# Altium footprint library belt_control_V2.0.PcbLib: 27 footprints (part 2 of 2)
Each footprint in its own frame and in the unit in brackets; x right, y up, seen from the top. Pads: shape width x height; smd on the part's side, far side on the other; paste and mask are expansions set on the pad; w line width, h text height; cw(c..) or ccw(c..) is an arc to the next point about the centre after c.
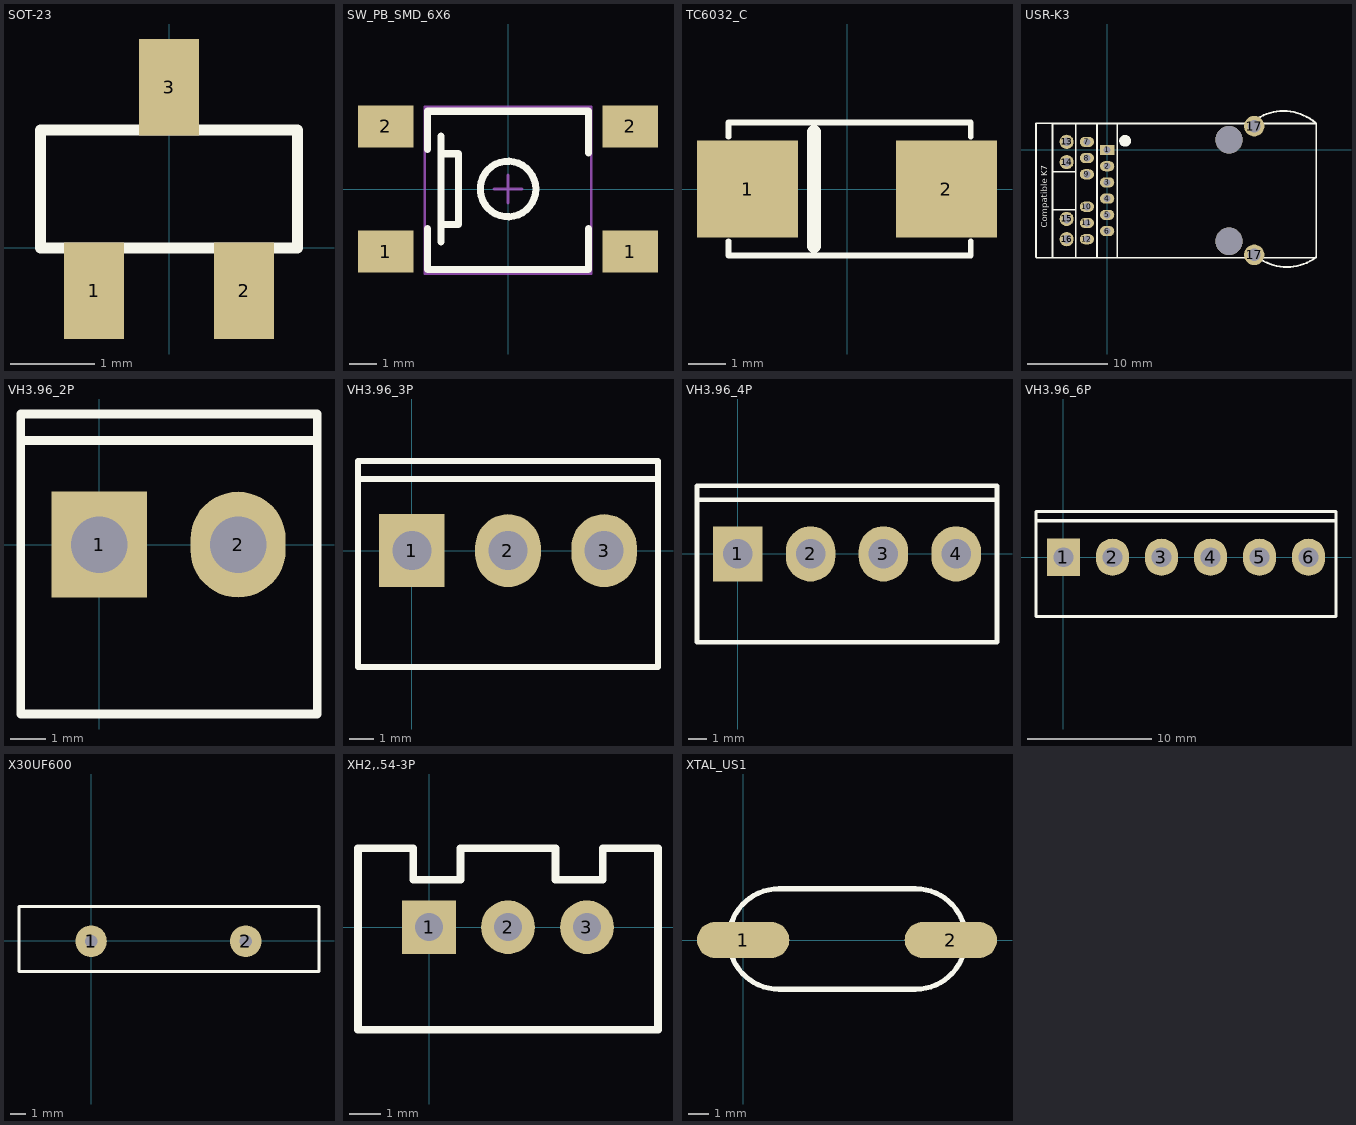
[diagram p1: the footprints below, top view; thin cyan lines are the x and y axes]

## SOT-23 [mil]
pads (3):
  rect 28x45 smd: 1(-35,-20) 2(35,-20) 3(0,75)
Top Overlay:
  lines w5: -60,0 -60,55 60,55 60,0 -60,0
3D body: height 47.24, standoff 0, extent -57.08,-30.12 57.09,80.12

## SW_PB_SMD_6X6 [mm]
pads (4):
  rect 2x1.5 smd: 1(-4.4,-2.25) 1(4.4,-2.25) 2(-4.4,2.25) 2(4.4,2.25)
Top Overlay:
  circle w0.254: c0,0 r1
  lines w0.254: -2.9,-1.418 -2.9,-2.9 2.9,-2.9 2.9,-1.418 ; -2.9,1.418 -2.9,2.8 2.9,2.8 2.9,1.291 ; -2.413,-1.905 -2.413,1.905 ; -2.413,-1.27 -1.778,-1.27 -1.778,1.27 -2.286,1.27
Mechanical 15:
  lines w0.1: -0.5,0 0.5,0 ; 0,-0.5 0,0.5 ; -3,-3.05 3,-3.05 3,2.95 -3,2.95 -3,-3.05
3D body: height 5.1, standoff -0.01, extent -4.975,-3.05 5.025,2.95

## TC6032_C [mm]
pads (2):
  rect 2.7x2.6 smd: 1(-2.667,0) 2(2.65,0)
Top Overlay:
  lines w0.152: -3.175,-1.397 -3.175,-1.778 3.302,-1.778 3.302,-1.397 ; -3.175,1.397 -3.175,1.778 3.302,1.778 3.302,1.397
  lines w0.381: -0.889,-1.524 -0.889,1.524
3D body: height 2.7, standoff 0, extent -2.923,-1.675 3.177,1.675

## USR-K3 [mil]
pads (18):
  rect 70x50 hole 35: 1(0,0)
  oval 70x50 hole 35: 2(0,-80) 3(0,-160) 4(0,-240) 5(0,-320) 6(0,-400) 7(-100,40) 8(-100,-40) 9(-100,-120) 10(-100,-280) 11(-100,-360) 12(-100,-440)
  round 70 hole 43: 13(-200,40) 14(-200,-60) 15(-200,-340) 16(-200,-440)
  round 101.18 hole 61.81: 17(725,-517.5) 17(725,117.5)
via 600,50 diameter 133.86 hole 133.86
via 600,-450 diameter 133.86 hole 133.86
Top Overlay:
  circle w30: c88.46,45 r14.14
  lines w7.87: -269.8,131 -351,131 -351,-529 -349.29,-530.71 -269.69,-530.71
  lines w8: -269.8,131 -269.69,-530.71 1030.32,-530.71 1030.2,127.48 ; -269.69,130.71 1030.32,130.71 ; -265,-294.96 -160,-294.96 ; -264.61,-107.52 -154.8,-107.52 ; -155,-530.71 -155,130.71 ; -50,-530.71 -50,130.71 ; 50.2,-527.52 50.2,127.48
  lines w10: 726.59,145.57 cw(c869.47,-50.22) 1026.03,134.81 ; 729.36,-519.85 ccw(c885.92,-334.82) 1028.8,-530.61
  text "Compatible K7" at -295,-384 h31.5

## VH3.96_2P [mm]
pads (2):
  rect 2.7x3 hole 1.6: 1(0,0)
  oval 2.7x3 hole 1.6: 2(3.937,0)
Top Overlay:
  lines w0.254: -2.22,2.946 6.178,2.946 ; -2.22,-4.8 -2.22,3.7 6.18,3.7 6.18,-4.8 -2.22,-4.8
3D body: height 10.9, standoff -3.7, extent -1.898,-4.504 5.962,3.996

## VH3.96_3P [mm]
pads (3):
  rect 2.7x3 hole 1.6: 1(0,0)
  oval 2.7x3 hole 1.6: 2(3.96,0) 3(7.92,0)
Top Overlay:
  lines w0.254: -2.22,2.946 10.14,2.946 ; -2.22,-4.8 10.14,-4.8 10.14,3.7 -2.22,3.7 -2.22,-4.8
3D body: height 10.9, standoff -3.7, extent -1.82,-4.682 10,3.818

## VH3.96_4P [mm]
pads (4):
  rect 2.7x3 hole 1.6: 1(0,0)
  oval 2.7x3 hole 1.6: 2(3.96,0) 3(7.92,0) 4(11.88,0)
Top Overlay:
  lines w0.254: -2.22,2.946 14.1,2.946 ; -2.22,-4.8 -2.22,3.7 14.1,3.7 14.1,-4.8 -2.22,-4.8
3D body: height 10.9, standoff -3.7, extent -2.048,-4.69 13.732,3.81

## VH3.96_6P [mm]
pads (6):
  rect 2.7x3 hole 1.6: 1(0,0)
  oval 2.7x3 hole 1.6: 2(3.96,0) 3(7.92,0) 4(11.88,0) 5(15.84,0) 6(19.8,0)
Top Overlay:
  lines w0.254: -2.22,2.946 22.02,2.946 ; -2.22,-4.8 -2.22,3.7 22.02,3.7 22.02,-4.8 -2.22,-4.8
3D body: height 14.6, standoff -3.6, extent -1.916,-4.835 21.844,3.565

## X30UF600 [mm]
pads (2):
  round 2 hole 0.8: 1(0,-0.025) 2(9.804,-0.025)
Top Overlay:
  lines w0.2: -4.572,-1.956 -4.572,2.184 -1.397,2.184 14.453,2.184 14.453,-1.956 -4.572,-1.956

## XH2,.54-3P [mil]
pads (3):
  rect 68x68 hole 35.43: 1(0,0)
  round 68 hole 35.43: 2(100,0) 3(200,0)
Top Overlay:
  lines w10: -90,-130 -90,100 -20,100 -20,60 40,60 40,100 160,100 160,60 220,60 220,100 290,100 290,-130 -90,-130
3D body: height 275.59, standoff -133.86, extent -94.76,-133.19 295,93.19

## XTAL_US1 [mm]
pads (2):
  oval 4.6x1.8 smd: 1(0,0) 2(10.338,0)
Top Overlay:
  lines w0.254: -0.582,-0.758 ccw(c1.783,0.051) 1.783,-2.449 ; -0.582,0.86 cw(c1.783,0.051) 1.783,2.551 ; 1.778,2.551 8.583,2.551 cw(c8.583,0.051) 10.949,0.86 ; 1.783,-2.449 8.583,-2.449 ccw(c8.583,0.051) 10.949,-0.758